# EAGLE library part BTM110 (library lib_stankus)
Rayson BTM110 bluetooth module
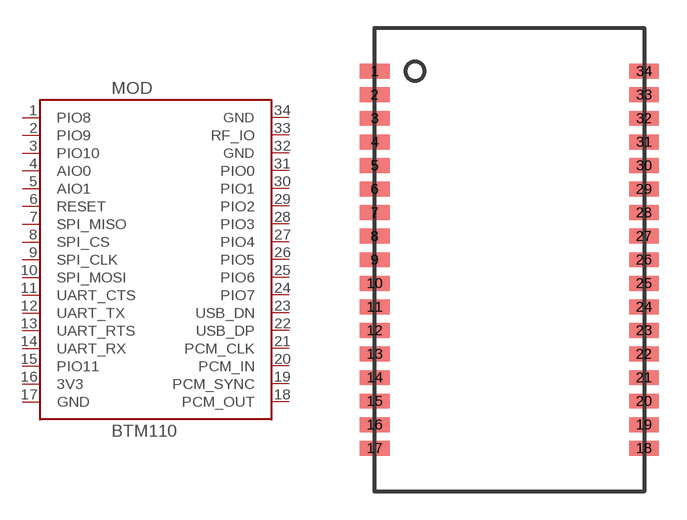
[diagram p35: symbol with the pads of BTM110; footprint BTM110]

Designator prefix MOD

## BTM110  [BTM110]
1  PIO8  pas
2  PIO9  pas
3  PIO10  pas
4  AIO0  pas
5  AIO1  pas
6  RESET  pas
7  SPI_MISO  pas
8  SPI_CS  pas
9  SPI_CLK  pas
10  SPI_MOSI  pas
11  UART_CTS  pas
12  UART_TX  pas
13  UART_RTS  pas
14  UART_RX  pas
15  PIO11  pas
16  3V3  pas
17  GND  pas
18  PCM_OUT  pas
19  PCM_SYNC  pas
20  PCM_IN  pas
21  PCM_CLK  pas
22  USB_DP  pas
23  USB_DN  pas
24  PIO7  pas
25  PIO6  pas
26  PIO5  pas
27  PIO4  pas
28  PIO3  pas
29  PIO2  pas
30  PIO1  pas
31  PIO0  pas
32  GND  pas
33  RF_IO  pas
34  GND  pas

## Footprint BTM110 (pad centres in mm)
BTM110
smd 1.6 x 0.8: 1 -7.25,10.16; 2 -7.25,8.89; 3 -7.25,7.62; 4 -7.25,6.35; 5 -7.25,5.08; 6 -7.25,3.81; 7 -7.25,2.54; 8 -7.25,1.27; 9 -7.25,0; 10 -7.25,-1.27; 11 -7.25,-2.54; 12 -7.25,-3.81; 13 -7.25,-5.08; 14 -7.25,-6.35; 15 -7.25,-7.62; 16 -7.25,-8.89; 17 -7.25,-10.16; 18 7.25,-10.16; 19 7.25,-8.89; 20 7.25,-7.62; 21 7.25,-6.35; 22 7.25,-5.08; 23 7.25,-3.81; 24 7.25,-2.54; 25 7.25,-1.27; 26 7.25,0; 27 7.25,1.27; 28 7.25,2.54; 29 7.25,3.81; 30 7.25,5.08; 31 7.25,6.35; 32 7.25,7.62; 33 7.25,8.89; 34 7.25,10.16